# EAGLE library part L__TRAFO_2 (library ++Bedrahtet)
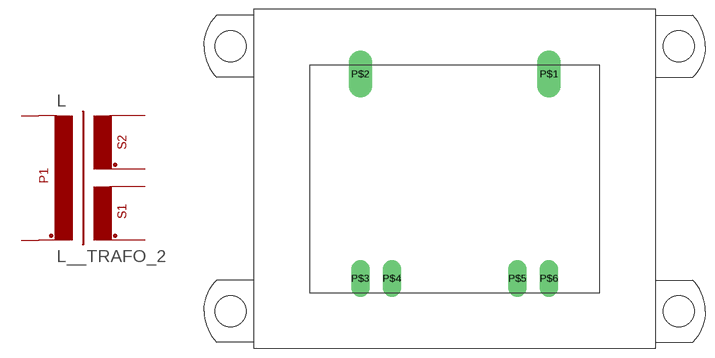
[diagram p6: symbol with the pads of TRAFO2; footprint TRAFO2]

Designator prefix L

## L__TRAFO_2  [TRAFO2]
P$1  P$1
P$2  P$2
P$3  P$3
P$4  P$4
P$5  P$5
P$6  P$6

## Footprint TRAFO2 (pad centres in mm)
drill 1.2 pad 3.81 long: P$1 15.24,17.78; P$2 -15.24,17.78
drill 1.2 pad 3 long: P$3 -15.24,-15.24; P$4 -10.16,-15.24; P$5 10.16,-15.24; P$6 15.24,-15.24
hole 5 at 36.25,22.25
hole 5 at 36.25,-20.5
hole 5 at -36.25,-20.5
hole 5 at -36.25,22.25